# Altium footprint library PcbLib1.PcbLib: 2 footprints
Each footprint in its own frame and in the unit in brackets; x right, y up, seen from the top. Pads: shape width x height; smd on the part's side, far side on the other; paste and mask are expansions set on the pad; w line width, h text height; cw(c..) or ccw(c..) is an arc to the next point about the centre after c.
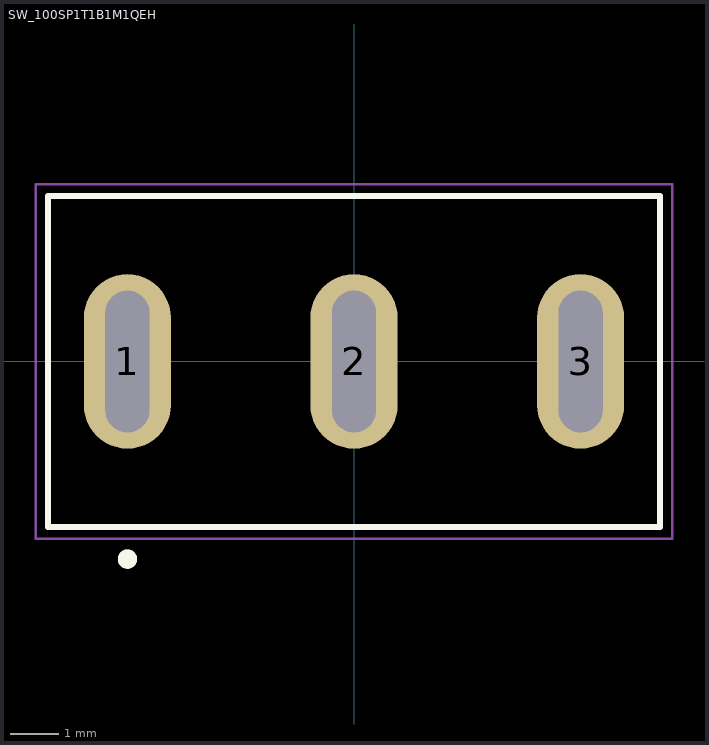
[diagram p0: the footprints below, top view; thin cyan lines are the x and y axes]

## PCBComponent_1 [mm]

## SW_100SP1T1B1M1QEH [mm]
pads (3):
  oval 1.81x3.62 hole 0.91 slot 2.94 at 90 deg: 1(-4.7,0) 2(0,0) 3(4.7,0)
Top Overlay:
  circle w0.2: c-4.7,-4.1 r0.1
  lines w0.127: -6.35,-3.43 -6.35,3.43 6.35,3.43 6.35,-3.43 -6.35,-3.43
Mechanical 13:
  circle w0.2: c-4.7,-4.1 r0.1
  lines w0.127: -6.35,-3.43 -6.35,3.43 6.35,3.43 6.35,-3.43 -6.35,-3.43
Mechanical 15:
  lines w0.05: -6.6,-3.68 -6.6,3.68 6.6,3.68 6.6,-3.68 -6.6,-3.68
3D body "step_temp.STEP": height 3.43, standoff -3.43, extent -6.35,-21.263 6.35,10.62